# EAGLE library part 010599 (library Lumberg)
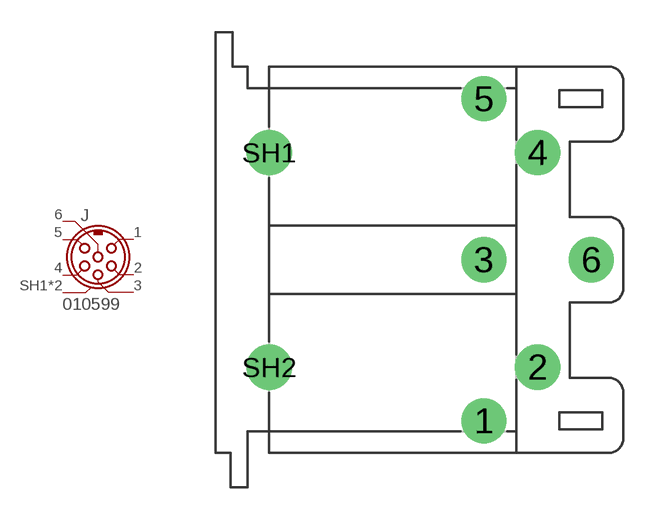
[diagram p3: symbol with the pads of 010599; footprint 010599]

Designator prefix J

## 010599  [010599]
1  1
2  2
3  3
4  4
5  5
6  6
SH1  SH
SH2  SH

## Footprint 010599 (pad centres in mm)
drill 1.4: 1 10,-7.5; 2 12.5,-5; 3 10,0; 4 12.5,5; 5 10,7.5; 6 15,0; SH1 0,5; SH2 0,-5